# Altium schematic symbol library componant.SchLib: 11 symbols
Pins are listed as number, name and electrical type; pins without a type are passive.

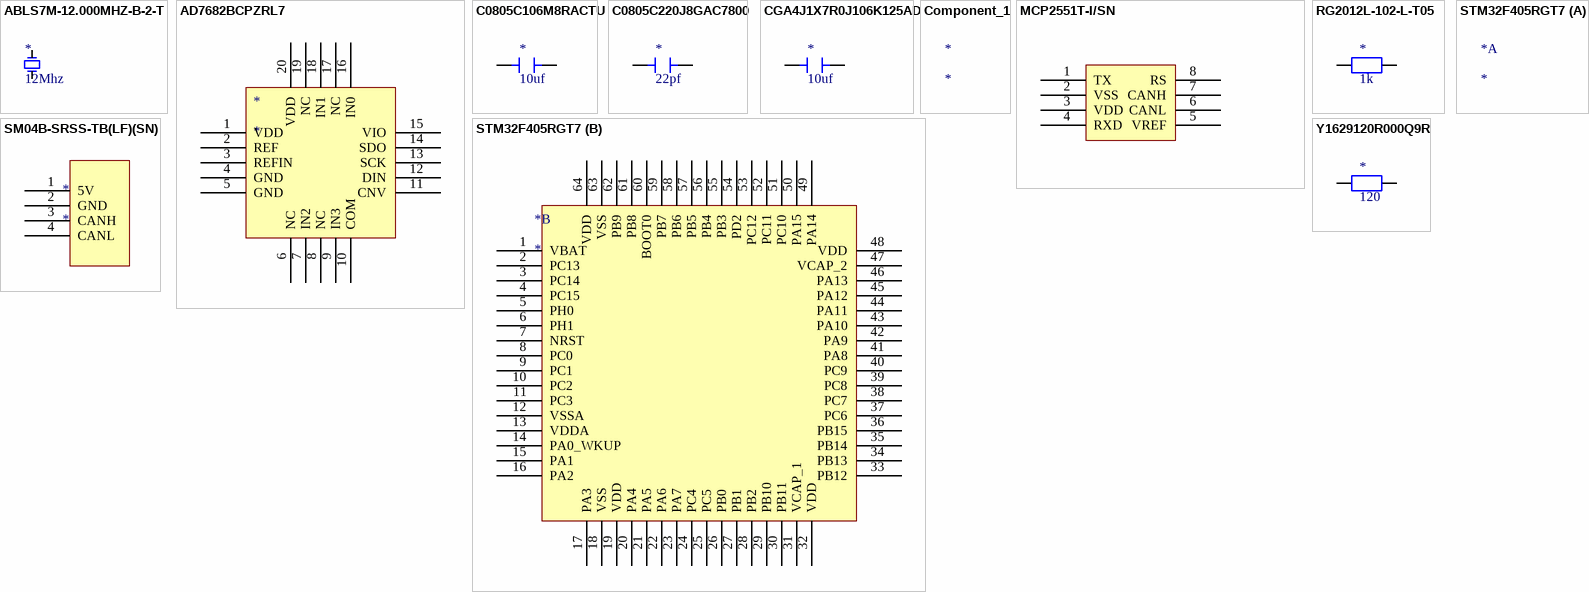
[diagram p0: symbols ABLS7M-12.000MHZ-B-2-T to Y1629120R000Q9R]

## ABLS7M-12.000MHZ-B-2-T
designator *, comment 12Mhz
Crystal 12MHz ±20ppm (Tol) ±50ppm (Stability) 18pF FUND 60Ohm 2-Pin HC-49/US SMD T/R; Manufacturer: Abracon; Manufacturer Part Number: ABLS7M-12.000MHZ-B-2-T; ESR (Equivalent Series Resistance): 60R; Supplier 1: Mouser; Stock 1: 2202; Pricing 1: 1 = 0.35000, 10 = 0.28800, 50 = 0.26400, 100 = 0.23300, 1000 = 0.18800, 10000 = 0.17200 (USD); RoHS: Yes; Mount: Surface Mount; Case/Package: SMD/SMT; Min Operating Temperature: -20°C; Max Operating Temperature: 70°C; Frequency: 12MHz; Tolerance: 20ppm; Packaging: Tape and Reel; Load Capacitance: 18pF; Frequency Tolerance: 20ppm; Package Quantity: 3000; Termination: SMD/SMT; Frequency Stability: 50ppm; Length: 0.276inch; Width: 0.161inch; Height: 0.091inch; ComponentLink3URL: http://abracon.com/Resonators/ABLS7M.pdf?src-supplier=Digi-Key; ComponentLink3Description: datasheet; Supplier Part Number 1: 815-ABLS7M-12-B-2-T; Category: crystals; ComponentLink4Description: digikey; ComponentLink4URL: https://www.digikey.com/en/products/detail/abracon-llc/ABLS7M-12-000MHZ-B-2-T/5138409?s=N4IgTCBcDaIIICEAyBlA7AWQLQEYwDoAGYjACQC0sEswsAVEAXQF8g
footprint crystal-12mhz
pins: 1, 2

## AD7682BCPZRL7
designator *
IC ADC 16BIT 4CH 250KSPS 20LFCSP; Manufacturer: Analog Devices / Linear Technology; Manufacturer Part Number: AD7682BCPZRL7; Interface: SPI,Serial,4-WIRE; Max Power Dissipation: 19.2mW; Number of Bits: 16; Sampling Rate: 250KS/s; Number of Converters: 1; Supply Type: Single; Polarity: Bipolar,Unipolar; Number of Inputs: 4; Resolution: 16b; Signal to Noise Ratio (SNR): 93.5dB; Differential Nonlinearity: -1LSB; Integral Nonlinearity (INL): 1.5LSB; Power Consumption: 15.5mW; Min Supply Voltage: 2.3V; Max Supply Voltage: 5.5V; Full Scale Error: 30LSB; Parameters: Integerated Circuits; Supplier 1: Mouser; Stock 1: 3753; Pricing 1: 1 = 13.00000, 10 = 11.94000, 50 = 11.14000, 100 = 9.59000, 1000 = 8.24000, 10000 = 8.23000 (USD); RoHS: Yes; Mount: Surface Mount; Case/Package: QFN; Number of Pins: 20; Contact Plating: Tin,Matte; Min Operating Temperature: -40°C; Max Operating Temperature: 85°C; Packaging: Tape and Reel; Package Quantity: 1; Number of A/D Converters: 1; Number of Channels: 4; Number of Elements: 1; Power Dissipation: 19.2mW; Series: PulSAR®; RoHS Compliant: Yes; Supplier Part Number 1: 584-AD7682BCPZR7; ComponentLink1Description: digikey; ComponentLink1URL: https://www.digikey.com/en/products/detail/analog-devices-inc/AD7682BCPZRL7/1880105?s=N4IgTCBcDaIIIBEDsA2AHGAQgYQAoC0AlAGSRAF0BfIA; ComponentLink2Description: datasheet; ComponentLink2URL: https://www.analog.com/media/en/technical-documentation/data-sheets/AD7682_7689.pdf
footprint CP-20-4_M (QFN, 20-Leads, Body 4x4mm, Pitch 0.5mm, Thermal Pad 2.5x2.5mm, IPC Low Density)
pins: 1 VDD, 2 REF, 3 REFIN, 4 GND, 5 GND, 6 NC, 7 IN2, 8 NC, 9 IN3, 10 COM, 11 CNV, 12 DIN, 13 SCK, 14 SDO, 15 VIO, 16 IN0, 17 NC, 18 IN1, 19 NC, 20 VDD

## C0805C106M8RACTU
designator *, comment 10uf
CAP 10UF 10V X7R 20% SMD 0805; Manufacturer: KEMET; Manufacturer Part Number: C0805C106M8RACTU; Dielectric Material: Ceramic; Supplier 1: Farnell; Stock 1: 7500; Pricing 1: 2500 = 0.70000, 5000 = 0.68000, 10000 = 0.66000, 15000 = 0.66000, 25000 = 0.65000 (EUR); RoHS: Yes; Mount: Surface Mount; Case/Package: 0805; Case Code (Metric): 2012; Case Code (Imperial): 0805; Min Operating Temperature: -55°C; Max Operating Temperature: 125°C; Package Quantity: 1; Capacitance: 10uF; Voltage Rating: 10V; Tolerance: 20%; Packaging: Tape and Reel; Voltage Rating (DC): 10V; Dielectric: X7R; Termination: SMD/SMT; Series: C; Length: 0.079inch; Width: 0.049inch; Thickness: 0.055inch; REACH SVHC: No SVHC; RoHS Compliant: Yes; ComponentLink1URL: https://datasheet.ciiva.com/5408/kem-c1002-x7r-smd-5408794.pdf?src-supplier=Mouser; ComponentLink1Description: datasheet; Supplier Part Number 1: 2855121; Category: Capacitors; ComponentLink2Description: digikey; ComponentLink2URL: https://www.digikey.com/en/products/detail/kemet/C0805C106M8RACTU/3317619
pins: 1, 2

## C0805C220J8GAC7800
designator *, comment 22pf
CAP CER 22PF 10V C0G/NP0 0805; Manufacturer: KEMET; Manufacturer Part Number: C0805C220J8GAC7800; Tolerance: 5%; Supplier 1: Digi-Key; Stock 1: 7404; Pricing 1: 1 = 0.25000, 10 = 0.17200, 50 = 0.11500, 100 = 0.09780, 500 = 0.06900, 1000 = 0.06038 (USD); RoHS: No; Mount: Surface Mount; Case/Package: 0805; Case Code (Imperial): 0805; Case Code (Metric): 2012; Min Operating Temperature: -55°C; Max Operating Temperature: 125°C; Packaging: Tape and Reel; Capacitance: 22pF; Voltage Rating: 10V; ComponentLink1URL: https://api.kemet.com/component-edge/download/datasheet/C0805C220J8GAC7800.pdf?src-supplier=Digi-Key; ComponentLink1Description: datasheet; Supplier Part Number 1: 399-15026-1-ND; ComponentLink2Description: digikey; ComponentLink2URL: https://www.digikey.com/en/products/detail/kemet/C0805C220J8GAC7800/7382141?s=N4IgTCBcDaIMIAYAcCCscxgQKSQcQEE4B2FBEAXQF8g
footprint Cap-22uf
pins: 1, 2

## CGA4J1X7R0J106K125AD
designator *, comment 10uf
CAP CER 10UF 6.3V X7R 0805; Manufacturer: TDK; Manufacturer Part Number: CGA4J1X7R0J106K125AD; Tolerance: 10%; Supplier 1: Mouser; Stock 1: 2250; Pricing 1: 1 = 0.49000, 10 = 0.26100, 50 = 0.26100, 100 = 0.21600, 1000 = 0.14300, 10000 = 0.11200 (USD); RoHS: Yes; Mount: Surface Mount; Case/Package: 0805; Case Code (Metric): 2012; Case Code (Imperial): 0805; Weight: 0.000194oz; Min Operating Temperature: -55°C; Max Operating Temperature: 125°C; Package Quantity: 2000; Packaging: Tape and Reel; Capacitance: 10uF; Voltage Rating: 6.3V; Dielectric: X7R; Voltage Rating (DC): 6.3V; Series: CGA; Length: 0.079inch; Width: 0.049inch; Height: 1.25mm; Thickness: 0.049inch; Ratings: AEC-Q200; RoHS Compliant: Yes; ComponentLink4URL: https://product.tdk.com/info/en/documents/chara_sheet/CGA4J1X7R0J106K125AD.pdf?src-supplier=Digi-Key; ComponentLink4Description: datasheet; Supplier Part Number 1: 810-CGA4J1X7R0J106KD; Category: capacitor; ComponentLink5Description: digikey; ComponentLink5URL: https://www.digikey.com/en/products/detail/tdk-corporation/CGA4J1X7R0J106K125AD/3933668?s=N4IgTCBcDaIMIHECCAWAUgRgBoHYBKADJgQGwDSGYArEgCIgC6AvkA
footprint Cap-10uf
pins: 1, 2

## Component_1
designator *

## MCP2551T-I/SN
designator *
CAN Interface IC Hi Spd CAN Transceiv; Manufacturer: Microchip; Manufacturer Part Number: MCP2551T-I/SN; Data Rate: 1Mbps; Max Supply Voltage: 5.5V; Min Supply Voltage: 4.5V; Operating Supply Voltage: 5V; Nominal Supply Current: 75mA; Number of Transmit Buffers: 1; Interface: CAN,Serial; Logic Function: Transceiver; Supplier 1: Avnet; Stock 1: 6737; Pricing 1: 1 = 1.07000, 25 = 0.89600 (USD); RoHS: Yes; Mount: Surface Mount; Case/Package: SOIC; Number of Pins: 8; Min Operating Temperature: -40°C; Max Operating Temperature: 85°C; Packaging: Tape and Reel; Number of Receive Buffers: 1; Package Quantity: 3300; Number of Receivers: 1; Max Supply Current: 75mA; Number of Transceivers: 1; Number of Drivers: 1; Supply Current: 75mA; Number of Functions: 1; Supply Voltage-Nom: 5.5V; Length: 4.9mm; Width: 3.9mm; Height: 1.5mm; Radiation Hardening: No; REACH SVHC: No SVHC; Lead Free: Lead Free; RoHS Compliant: Yes; ComponentLink6URL: https://datasheet.ciiva.com/17649/jp011797-17649037.pdf?src-supplier=Avnet+Europe; ComponentLink6Description: datasheet; Supplier Part Number 1: 92C4188; Category: Integrated Circuits; ComponentLink7Description: digikey; ComponentLink7URL: https://www.digikey.com/en/products/detail/microchip-technology/MCP2551T-I-SN/509535?s=N4IgTCBcDaILIGEAKYCsqCMAVAtASQHoBlAORAF0BfIA
footprint mcp2551
pins: 1 TX, 2 VSS, 3 VDD, 4 RXD, 5 VREF, 6 CANL, 7 CANH, 8 RS

## RG2012L-102-L-T05
designator *, comment 1k
RES SMD 1K OHM 0.01% 1/10W 0805; Manufacturer: Susumu; Manufacturer Part Number: RG2012L-102-L-T05; Voltage Rating (DC): 150V; Temperature Coefficient: 2ppm/°C; Resistance: 1kR; Power Rating: 125mW; Supplier 1: Mouser; Stock 1: 5837; Pricing 1: 1 = 4.99000, 10 = 4.29000, 50 = 4.23000, 100 = 3.29000, 1000 = 1.83000, 10000 = 1.83000 (USD); RoHS: Yes; Case/Package: 0805; Case Code (Imperial): 0805; Case Code (Metric): 2012; Weight: 0.000194oz; Min Operating Temperature: -55°C; Max Operating Temperature: 125°C; Termination: SMD/SMT; Resistor Type: Thin Film; Tolerance: 0.01%; Voltage Rating: 150V; Packaging: Tape and Reel; Package Quantity: 500; Length: 2mm; Width: 1.2mm; Height: 0.4mm; Lead Free: Lead Free; ComponentLink4URL: http://www.susumu-usa.com/pdf/RG_Data_Sheet.pdf?src-supplier=Future+Electronics; ComponentLink4Description: datasheet; Supplier Part Number 1: 754-RG2012L-102-LT05; category: Resistor; ComponentLink5Description: digikey; ComponentLink5URL: https://www.digikey.com/en/products/category/resistors/2?s=N4IgTCBcDaIEoHEwAYCMYAyBaVyxewBVkBWEAXQF8g
pins: 1 1 , 2

## SM04B-SRSS-TB(LF)(SN)
designator *
JST (JAPAN SOLDERLESS TERMINALS) - SM04B-SRSS-TB(LF)(SN) - Wire-To-Board Connector, 1 mm, 4 Contacts, Header, SH Series, Surface Mount, 1 Rows; Number of Positions: 4; Connector Type: Male Pin; Contact Resistance: 40mR; Max Current Rating: 1A; Max Voltage Rating (DC): 50V; Pitch: 0.039inch; Supplier 1: Farnell; Manufacturer: JST; Manufacturer Part Number: SM04B-SRSS-TB(LF)(SN); Stock 1: 7459; Pricing 1: 10 = 2.18000, 100 = 1.67000, 500 = 1.45000, 1000 = 1.20000, 2500 = 1.14000, 5000 = 1.09000 (EUR); RoHS: Yes; Mount: Surface Mount; Color: Natural; Contact Plating: Tin,Copper; Contact Material: Copper Alloy; Housing Material: Polyamide; Housing Color: Beige; Min Operating Temperature: -25°C; Max Operating Temperature: 85°C; Number of Rows: 1; Packaging: Tape and Reel; Termination: Solder; Number of Contacts: 4; Orientation: Right Angle; Max Voltage Rating (AC): 50V; Length: 6mm; Depth: 4.95mm; Lead Free: Lead Free; ComponentLink3URL: https://datasheet.ciiva.com/16487/jstsm04b-srss-tb-lf-sn-16487222.pdf?src-supplier=Future+Electronics; ComponentLink3Description: datasheet; Supplier Part Number 1: 1830839; ComponentLink4Description: digikey; ComponentLink4URL: https://www.digikey.com/en/products/detail/jst-sales-america-inc/SM04B-SRSS-TB-LF-SN/926710?s=N4IgTCBcDaIDoBcAEBlAsgBgCwCEC0KASiingCo4AUAMgGICUlKAcvSALoC%2BQA; Category: connector; Parameter 1: *; Parameter 2: *
footprint JST_SM04B-SRSS-TB(LF)(SN)
pins: 1 5V, 2 GND, 3 CANH, 4 CANL

## STM32F405RGT7
designator *
STMICROELECTRONICS - STM32F405RGT7 - ARM MCU, Advanced Connectivity and Encryption, STM32 Family STM32F4 Series Microcontrollers; Max Power Dissipation: 435mW; Interface: I2C,SPI,USB,CAN,IrDA,UART,USART,LIN,I2S,SDIO; Number of I/Os: 51; Number of Timers/Counters: 14; Frequency: 168MHz; RAM Size: 192KB; Max Supply Voltage: 3.6V; Min Supply Voltage: 1.8V; Oscillator Type: Internal; Data Bus Width: 32b; Watchdog Timer: Yes; Memory Type: FLASH; Memory Size: 1MB; Number of ADC Channels: 16; Peripherals: Brown-out Detect/Reset,POR,PWM,WDT,DMA,LCD; Supplier 1: Avnet; Manufacturer: STMicroelectronics; Manufacturer Part Number: STM32F405RGT7; Stock 1: 14; Pricing 1: 1 = 15.56000, 10 = 14.52000, 25 = 14.04000, 50 = 13.36000, 100 = 12.67000, 250 = 12.19000, 500 = 11.57000 (USD); RoHS: Yes; Case/Package: LQFP; Number of Pins: 64; Min Operating Temperature: -40°C; Max Operating Temperature: 105°C; Packaging: Tray; Number of Programmable I/O: 51; Max Frequency: 168MHz; Package Quantity: 960; Core Architecture: ARM; Radiation Hardening: No; REACH SVHC: No SVHC; Lead Free: Lead Free; RoHS Compliant: Yes; ComponentLink1URL: https://datasheet.ciiva.com/48492/dm00037051-48492456.pdf?src-supplier=Avnet; ComponentLink1Description: datasheet; Supplier Part Number 1: 99W9902; Category: integrated ICs; ComponentLink2Description: digikey; ComponentLink2URL: https://www.digikey.com/en/products/category/integrated-circuits-ics/32?s=N4IgTCBcDaIMoBUCyBmMAxALABgKwCUBxBAdhAF0BfIA
footprint Quad64
part B pins: 1 VBAT, 2 PC13, 3 PC14, 4 PC15, 5 PH0, 6 PH1, 7 NRST, 8 PC0, 9 PC1, 10 PC2, 11 PC3, 12 VSSA, 13 VDDA, 14 PA0_WKUP, 15 PA1, 16 PA2, 17 PA3, 18 VSS, 19 VDD, 20 PA4, 21 PA5, 22 PA6, 23 PA7, 24 PC4, 25 PC5, 26 PB0, 27 PB1, 28 PB2, 29 PB10, 30 PB11, 31 VCAP_1, 32 VDD, 33 PB12, 34 PB13, 35 PB14, 36 PB15, 37 PC6, 38 PC7, 39 PC8, 40 PC9, 41 PA8, 42 PA9, 43 PA10, 44 PA11, 45 PA12, 46 PA13, 47 VCAP_2, 48 VDD, 49 PA14, 50 PA15, 51 PC10, 52 PC11, 53 PC12, 54 PD2, 55 PB3, 56 PB4, 57 PB5, 58 PB6, 59 PB7, 60 BOOT0, 61 PB8, 62 PB9, 63 VSS, 64 VDD

## Y1629120R000Q9R
designator *, comment 120
RES SMD 120 OHM 0.02% 1/10W 0805; Manufacturer: VPG Foil Resistors; Manufacturer Part Number: Y1629120R000Q9R; Resistance: 120R; Max Power Dissipation: 100mW; Temperature Coefficient: 0.2ppm/°C; Supplier 1: Arrow Electronics; Stock 1: 0; Pricing 1: 1 = 13.84000, 25 = 7.40100, 50 = 5.40700, 100 = 3.54000, 250 = 3.36000 (USD); RoHS: Yes; Case/Package: 0805; Case Code (Metric): 2012; Case Code (Imperial): 0805; Min Operating Temperature: -55°C; Max Operating Temperature: 150°C; Package Quantity: 100; Packaging: Tape and Reel; Tolerance: 0.02%; Resistor Type: Metal Foil; Number of Terminations: 2; Features: Moisture Resistant,Anti-Sulfur; Length: 0.079inch; Width: 0.049inch; Height: 0.025inch; RoHS Compliant: Yes; ComponentLink4URL: https://datasheet.ciiva.com/29718/vfcpseri-29718031.pdf?src-supplier=Digi-Key; ComponentLink4Description: datsheet; Supplier Part Number 1: Y1629120R000Q9R; Category: resistor; ComponentLink5Description: digikey; ComponentLink5URL: https://www.digikey.com/en/products/detail/vishay-foil-resistors-division-of-vishay-precision-group/Y1629120R000Q9R/4231342?s=N4IgTCBcDaIJoEYBsYCcCwAYBKm8EVVsQBdAXyA
pins: 1 1 , 2